# EAGLE library part NCP3066 (library _allyourbase)
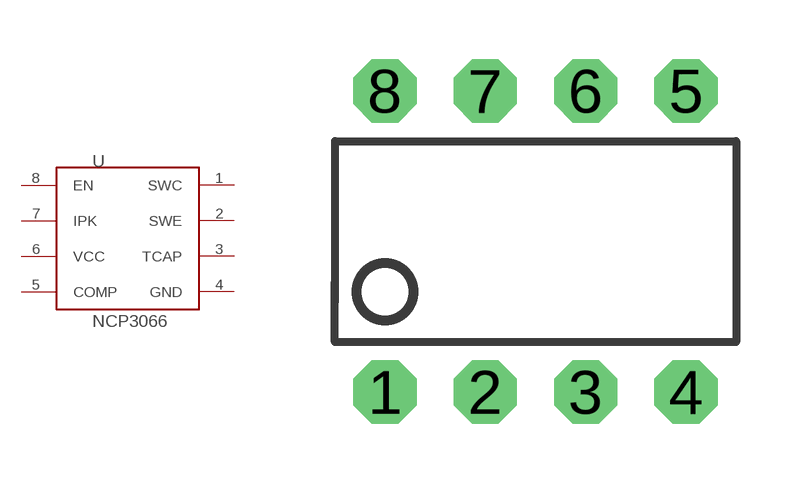
[diagram p3: symbol with the pads of DIP08; footprint DIP08]

Designator prefix -

## NCP3066PDIP-8  [DIP08]
1  SWC
2  SWE
3  TCAP
4  GND
5  COMP
6  VCC
7  IPK
8  EN

## Footprint DIP08 (pad centres in mm)
Dual In Line
drill 0.813 pad 1.6 octagon: 1 -3.81,-3.81; 2 -1.27,-3.81; 3 1.27,-3.81; 4 3.81,-3.81; 5 3.81,3.81; 6 1.27,3.81; 7 -1.27,3.81; 8 -3.81,3.81